# EAGLE library part MDSSV-BD03 (library con-yamaichi)
YAMAICHI CONNECTOR
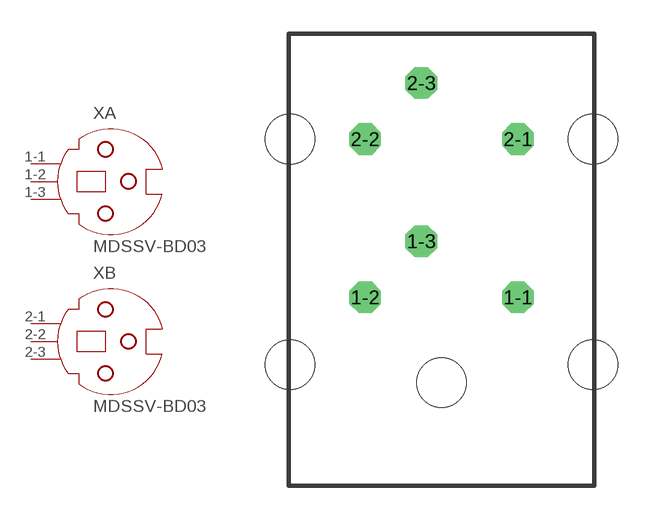
[diagram p20: symbol with the pads of SSV-BD03; footprint SSV-BD03]

Designator prefix X; gates A=SSV-BC03 B=SSV-BC03

## MDSSV-BD03 (OC_FARNELL: unknown; OC_NEWARK: unknown)  [SSV-BD03]
1-1  A:1  pas
1-2  A:2  pas
1-3  A:3  pas
2-1  B:1  pas
2-2  B:2  pas
2-3  B:3  pas

## Footprint SSV-BD03 (pad centres in mm)
Mini Din YAMAICHI CONNECTOR
drill 0.9 octagon: 1-1 3.4,8.5; 1-2 -3.4,8.5; 1-3 -0.9,11; 2-1 3.4,15.55; 2-2 -3.4,15.55; 2-3 -0.9,18.05
hole 2.2 at -6.75,5.5
hole 2.2 at 0,4.7
hole 2.2 at 6.75,5.5
hole 2.2 at -6.75,15.55
hole 2.2 at 6.75,15.55